# Altium schematic symbol library KCD2.SchLib: 1 symbol
Pins are listed as number, name and electrical type; pins without a type are passive.

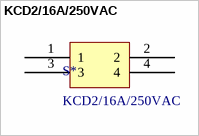
[diagram p0: symbol KCD2/16A/250VAC]

## KCD2/16A/250VAC
designator S*
footprint KCD1-104-W (船型开关-卧式)
pins: 1, 2, 3, 4